# Altium schematic symbol library Voltage Regulator_D2PAK.Schlib: 1 symbol
Pins are listed as number, name and electrical type; pins without a type are passive.

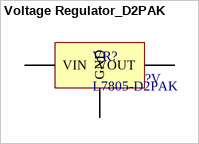
[diagram p0: symbol Voltage Regulator_D2PAK]

## Voltage Regulator_D2PAK
designator VR?, comment L7805-D2PAK  Output Voltage: ?V
footprint DPAK254P1542X460-3N (D2-PAK, 3-Pads, Body 7.78x8.56mm (max), IPC Medium Density)
pins: 1 VIN, 3 VOUT, 4 GND